# EAGLE library part HEADER-2X3 (library microbuilder)
PIN HEADER
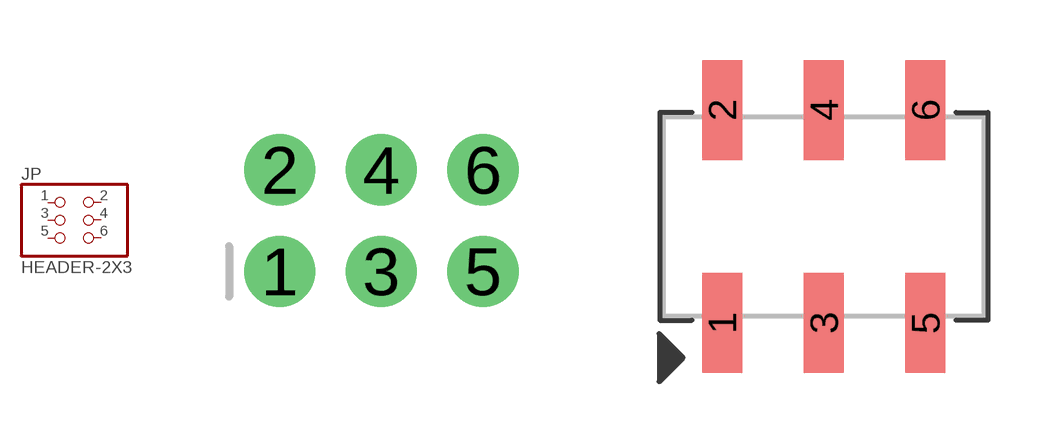
[diagram p3: symbol with the pads of 2X03_ROUND_70MIL; footprints 2X03_ROUND_70MIL, 2X03_SMT_4UCON_14113]

Designator prefix JP

## HEADER-2X3  [2X03_ROUND_70MIL]
1  1  pas
2  2  pas
3  3  pas
4  4  pas
5  5  pas
6  6  pas

## HEADER-2X314113  [2X03_SMT_4UCON_14113]
Pads as for 2X03_ROUND_70MIL

## HEADER-2X314113_MP  [2X03_SMT_4UCON_15881_MICRO]
Pads as for 2X03_ROUND_70MIL

## HEADER-2X3SMT  [2X03_SMT_4UCON_17647]
Pads as for 2X03_ROUND_70MIL

## HEADER-2X3_15881  [2X03_SMT_4UCON_15881]
Pads as for 2X03_ROUND_70MIL

## Footprint 2X03_ROUND_70MIL (pad centres in mm)
drill 0.9 pad 1.778: 1 -2.54,-1.27; 2 -2.54,1.27; 3 0,-1.27; 4 0,1.27; 5 2.54,-1.27; 6 2.54,1.27

## Footprint 2X03_SMT_4UCON_14113 (pad centres in mm)
smd 1 x 2.5: 1 -2.54,-2.665; 2 -2.54,2.665; 3 0,-2.665; 4 0,2.665; 5 2.54,-2.665; 6 2.54,2.665

## Footprint 2X03_SMT_4UCON_15881_MICRO (pad centres in mm)
smd 1 x 2.5: 1 -2.54,-2.665; 2 -2.54,2.665; 3 0,-2.665; 4 0,2.665; 5 2.54,-2.665; 6 2.54,2.665
hole 1.8 at -1.27,0
hole 1.8 at 1.27,0

## Footprint 2X03_SMT_4UCON_17647 (pad centres in mm)
4UCON: 17647
smd 1 x 1.9: 1 -2.54,-2.85; 2 -2.54,2.85; 3 0,-2.85; 4 0,2.85; 5 2.54,-2.85; 6 2.54,2.85
hole 1.778 at 1.27,0
hole 1.778 at -1.27,0

## Footprint 2X03_SMT_4UCON_15881 (pad centres in mm)
smd 1 x 1.9: 1 -2.54,-2.85; 2 -2.54,2.85; 3 0,-2.85; 4 0,2.85; 5 2.54,-2.85; 6 2.54,2.85
hole 1.778 at 1.27,0
hole 1.778 at -1.27,0